# EAGLE library part DS36954 (library Traficon)
Quad RS485 bus transceiver
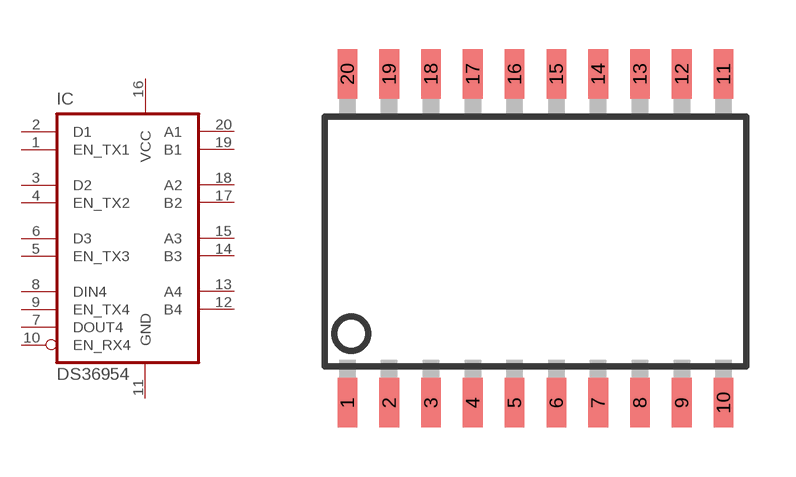
[diagram p100: symbol with the pads of SOIC20S; footprint SOIC20S]

Designator prefix IC

## DS36954  [SOIC20S]
1  EN_TX1
2  D1
3  D2
4  EN_TX2
5  EN_TX3
6  D3
7  DOUT4
8  DIN4
9  EN_TX4
10  EN_RX4
11  GND
12  B4
13  A4
14  B3
15  A3
16  VCC
17  B2
18  A2
19  B1
20  A1

## Footprint SOIC20S (pad centres in mm)
Wide Plastic Gull Wing Small Outline Package
smd 0.6 x 1.5: 1 -5.715,-5; 2 -4.445,-5; 3 -3.175,-5; 4 -1.905,-5; 5 -0.635,-5; 6 0.635,-5; 7 1.905,-5; 8 3.175,-5; 9 4.445,-5; 10 5.715,-5; 11 5.715,5; 12 4.445,5; 13 3.175,5; 14 1.905,5; 15 0.635,5; 16 -0.635,5; 17 -1.905,5; 18 -3.175,5; 19 -4.445,5; 20 -5.715,5